# Altium schematic symbol library MCP6001T-I_OT.SchLib: 1 symbol
Pins are listed as number, name and electrical type; pins without a type are passive.

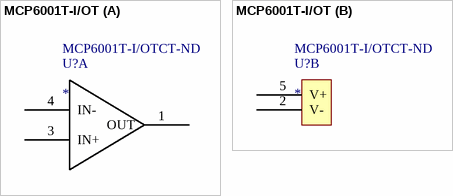
[diagram p0: symbol MCP6001T-I/OT]

## MCP6001T-I/OT
designator U?  Supplier Part Number 1: MCP6001T-I/OTCT-ND
IC OPAMP GP 1MHZ RRO SOT23-5; Manufacturer: Microchip Technology; Manufacturer Part Number: MCP6001T-I/OT; Min Supply Voltage: 1.8V; Max Supply Voltage: 6V; Voltage Gain: 112dB; Common Mode Rejection Ratio: 60dB; Nominal Supply Current: 100uA; Number of Channels: 1; Slew Rate: 0.6V/µs; Output Current: 23mA; Input Bias Current: 1pA; Input Offset Voltage (Vos): 4.5mV; Supply Voltage: 5V; Power Supply Rejection Ratio (PSRR): 86dB; Max Input Voltage: 5.8V; Min Input Voltage: -300mV; Supplier 1: Digikey; Stock 1: 64918; Pricing 1: 1=0.25, 25=0.206, 100=0.1854 (USD); Mount: Surface Mount; Case/Package: SOT-23; Number of Pins: 5; Contact Plating: Tin; Min Operating Temperature: -40°C; Max Operating Temperature: 85°C; Package Quantity: 1; Gain Bandwidth Product: 1MHz; Packaging: Tape and Reel; Bandwidth: 1MHz; Unity Gain Bandwidth Product: 1MHz; Number of Circuits: 1; Number of Elements: 1; Number of Amplifiers: 1; Operating Supply Current: 100uA; Output Current per Channel: 23mA; Length: 3.1mm; Height: 1.3mm; Width: 1.8mm; Radiation Hardening: No; REACH SVHC: No SVHC; Lead Free: Lead Free; ComponentLink1URL: https://datasheet.ciiva.com/1793/21733j-1793040.pdf; ComponentLink1Description: https://datasheet.ciiva.com/1793/21733j-1793040.pdf; ComponentLink2URL: https://datasheet.ciiva.com/16199/filehandler-aspxddocname-en011705-16199408.pdf; ComponentLink2Description: https://datasheet.ciiva.com/16199/filehandler-aspxddocname-en011705-16199408.pdf; ComponentLink3URL: https://datasheet.ciiva.com/1793/21733j-1793041.pdf; ComponentLink3Description: https://datasheet.ciiva.com/1793/21733j-1793041.pdf; ComponentLink4URL: https://datasheet.ciiva.com/1793/21733j-1793042.pdf; ComponentLink4Description: https://datasheet.ciiva.com/1793/21733j-1793042.pdf; ComponentLink5URL: https://datasheet.ciiva.com/16796/jp011705-16796421.pdf; ComponentLink5Description: https://datasheet.ciiva.com/16796/jp011705-16796421.pdf; ComponentLink6URL: https://datasheet.ciiva.com/8078/524878-8078826.pdf; ComponentLink6Description: https://datasheet.ciiva.com/8078/524878-8078826.pdf; ComponentLink7URL: https://datasheet.ciiva.com/14544/70045422-14544795.pdf; ComponentLink7Description: https://datasheet.ciiva.com/14544/70045422-14544795.pdf; ComponentLink8URL: https://datasheet.ciiva.com/8078/524878-8078829.pdf; ComponentLink8Description: https://datasheet.ciiva.com/8078/524878-8078829.pdf; ComponentLink9URL: https://datasheet.ciiva.com/14151/mcp6001-2-4-eng-tds-14151487.pdf; ComponentLink9Description: https://datasheet.ciiva.com/14151/mcp6001-2-4-eng-tds-14151487.pdf; ComponentLink10URL: https://datasheet.ciiva.com/26344/651487-da-01-en-ic-opamp-mcp6001t-i-ot-sot-23-5-mcp-26344500.pdf; ComponentLink10Description: https://datasheet.ciiva.com/26344/651487-da-01-en-ic-opamp-mcp6001t-i-ot-sot-23-5-mcp-26344500.pdf
footprint SOT95P270X145-5N (SOT23, 5-Leads, Body 2.90x2.70mm, Pitch 0.95mm, IPC Medium Density)
part A pins: 1 OUT, 3 IN+, 4 IN-
part B pins: 2 V-, 5 V+